# Altium schematic symbol library MCP6004.schlib: 1 symbol
Pins are listed as number, name and electrical type; pins without a type are passive.

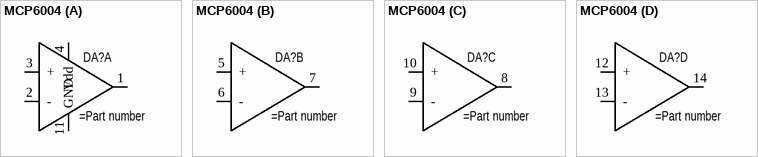
[diagram p0: symbol MCP6004]

## MCP6004
designator DA?
part A pins: 1 Out, 2 -, 3 +, 4 Vdd, 11 GND
part B pins: 5 +, 6 -, 7 Out
part C pins: 8 Out, 9 -, 10 +
part D pins: 12 +, 13 -, 14 Out